# Altium footprint library Loggerhead.PcbLib: 175 footprints (part 2 of 11)
Each footprint in its own frame and in the unit in brackets; x right, y up, seen from the top. Pads: shape width x height; smd on the part's side, far side on the other; paste and mask are expansions set on the pad; w line width, h text height; cw(c..) or ccw(c..) is an arc to the next point about the centre after c.
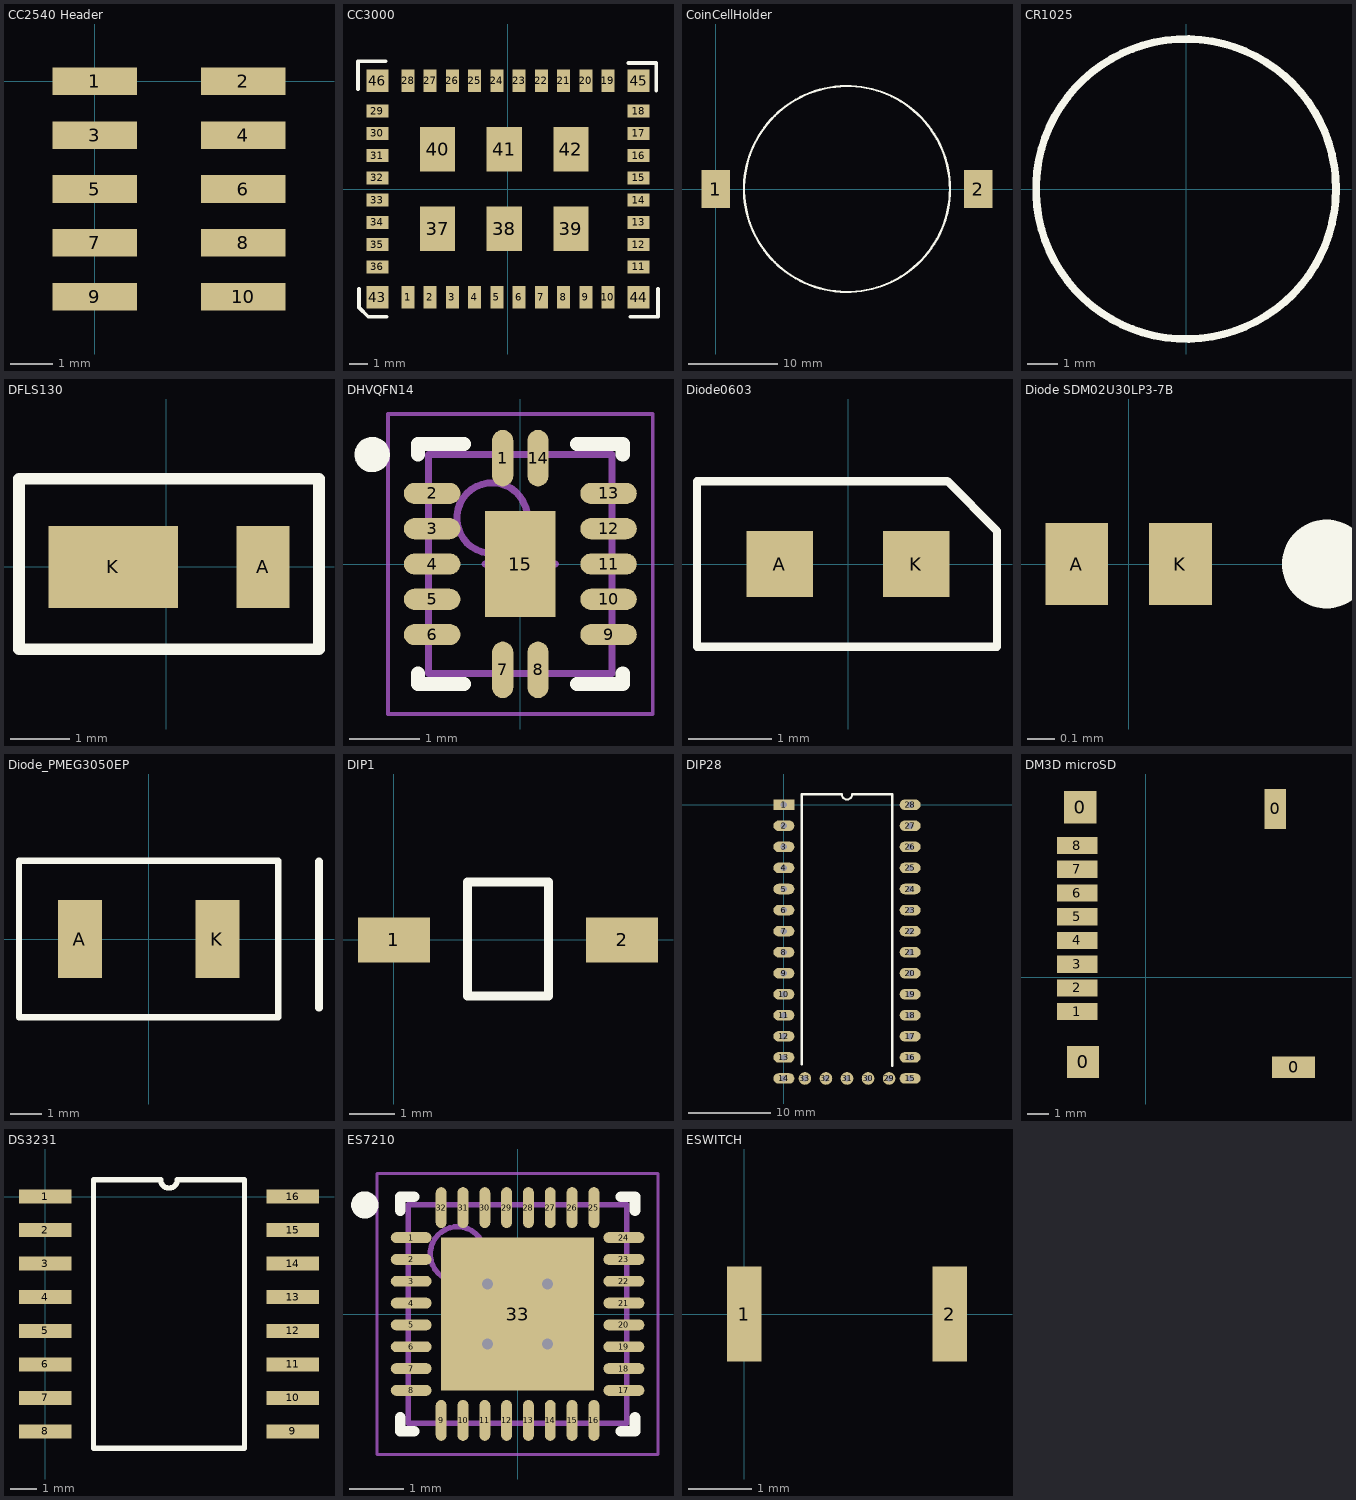
[diagram p1: the footprints below, top view; thin cyan lines are the x and y axes]

## CC2540 Header [mm]
pads (10):
  rect 2x0.65 smd: 1(0,0) 2(3.5,0) 3(0,-1.27) 4(3.5,-1.27) 5(0,-2.54) 6(3.5,-2.54) 7(0,-3.81) 8(3.5,-3.81) 9(0,-5.08) 10(3.5,-5.08)

## CC3000 [mm] "TI WiFi"
height 2
pads (46):
  rect 0.7x1.2 smd: 1(-5.4,-5.85) 2(-4.2,-5.85) 3(-3,-5.85) 4(-1.8,-5.85) 5(-0.6,-5.85) 6(0.6,-5.85) 7(1.8,-5.85) 8(3,-5.85) 9(4.2,-5.85) 10(5.4,-5.85) 19(5.4,5.85) 20(4.2,5.85) 21(3,5.85) 22(1.8,5.85) 23(0.6,5.85) 24(-0.6,5.85) 25(-1.8,5.85) 26(-3,5.85) 27(-4.2,5.85) 28(-5.4,5.85)
  rect 1.2x0.7 smd: 11(7.05,-4.2) 12(7.05,-3) 13(7.05,-1.8) 14(7.05,-0.6) 15(7.05,0.6) 16(7.05,1.8) 17(7.05,3) 18(7.05,4.2) 29(-7.05,4.2) 30(-7.05,3) 31(-7.05,1.8) 32(-7.05,0.6) 33(-7.05,-0.6) 34(-7.05,-1.8) 35(-7.05,-3) 36(-7.05,-4.2)
  rect 1.9x2.4 smd: 37(-3.8,-2.15) 38(-0.2,-2.15) 39(3.4,-2.15) 40(-3.8,2.15) 41(-0.2,2.15) 42(3.4,2.15)
  rect 1.2x1.2 smd: 43(-7.05,-5.85) 44(7.05,-5.85) 45(7.05,5.85) 46(-7.05,5.85)
Top Overlay:
  lines w0.2: -8.1,5.4 -8.1,6.9 -6.6,6.9 ; -8.05,-5.4 -8.05,-6.4 -7.55,-6.9 -6.55,-6.9 ; 6.5,6.8 8,6.8 8,5.3 ; 6.6,-6.9 8.1,-6.9 8.1,-5.4

## CC-16-4 [mm]

## CoinCellHolder [mm] "MPD BU2032SM-BT-GTR"
height 4.8
pads (2):
  rect 3.2x4.2 smd: 1(0,0) 2(29.3,0)
Top Overlay:
  circle w0.254: c14.65,0 r11.5

## CR1025 [mm]
height 2.5
Top Overlay:
  circle w0.254: c0,0 r5
3D body: height 2.5, standoff 0, extent -4.961,-5 5,4.98

## DFLS130 [mm] "Diode"
pads (2):
  rect 0.9x1.4 smd: A(1.65,0)
  rect 2.2x1.4 smd: K(-0.9,0)
Top Overlay:
  lines w0.2: -2.5,-1.4 2.6,-1.4 2.6,1.5 -2.5,1.5 -2.5,0 -2.5,-1.4

## DHVQFN14 [mm] "QFN, 14-Leads, Body 2.50x3.00mm, Pitch 0.50mm, Thermal Pad 1.00x1.50mm, IPC Medium Density"
height 1
pads (15):
  oval 0.3x0.8 smd: 1(-0.25,1.5) 7(-0.25,-1.5) 8(0.25,-1.5) 14(0.25,1.5)
  oval 0.8x0.3 smd: 2(-1.25,1) 3(-1.25,0.5) 4(-1.25,0) 5(-1.25,-0.5) 6(-1.25,-1) 9(1.25,-1) 10(1.25,-0.5) 11(1.25,0) 12(1.25,0.5) 13(1.25,1)
  rect 1x1.5 smd: 15(0,0)
Top Overlay:
  circle w0.25: c-2.1,1.55 r0.125
  lines w0.2: -1.45,-1.55 -1.45,-1.7 -0.8,-1.7 ; -1.45,1.55 -1.45,1.7 -0.8,1.7 ; 0.8,-1.7 1.45,-1.7 1.45,-1.55 ; 0.8,1.7 1.45,1.7 1.45,1.55
Mechanical 13:
  circle w0.1: c-0.4,0.65 r0.5
  lines w0.1: -1.3,-1.55 -1.3,1.55 1.3,1.55 1.3,-1.55 -1.3,-1.55
Mechanical 15:
  lines w0.05: -1.875,-2.125 -1.875,2.125 1.875,2.125 1.875,-2.125 -1.875,-2.125
  lines w0.1: -0.5,0 0.5,0 ; 0,-0.5 0,0.5
3D body: height 1, standoff 0.03, extent -1.3,-1.55 1.3,1.55

## Diode0603 [mm]
pads (2):
  rect 0.8x0.8 smd: A(-0.825,0) K(0.825,0)
Top Overlay:
  lines w0.1: -1.825,-1 -1.825,0 -1.825,1 1.2,1 1.8,0.4 1.8,-1 -1.825,-1

## Diode SDM02U30LP3-7B [mm]
height 0.3
pads (2):
  rect 0.23x0.3 smd: A(-0.19,0) K(0.19,0)
Top Overlay:
  circle w0.254: c0.725,0 r0.035

## Diode_PMEG3050EP [mm]
pads (2):
  rect 1.4x2.5 smd: A(-2.2,0) K(2.2,0)
Top Overlay:
  lines w0.2: -4.15,-2.5 4.15,-2.5 4.15,2.5 -4.15,2.5 -4.15,0 -4.15,-2.5
  lines w0.254: 5.45,-2.2 5.45,2.475

## DIP1 [mm]
pads (2):
  rect 1.6x1 smd: 1(0,0) 2(5.08,0)
Top Overlay:
  lines w0.2: 1.635,1.25 1.635,-1.25 3.445,-1.25 3.445,1.25 ; 1.635,1.29 3.445,1.29

## DIP28 [mil]
pads (33):
  rect 100x50 hole 30: 1(0,0)
  oval 100x50 hole 30: 2(0,-100) 3(0,-200) 4(0,-300) 5(0,-400) 6(0,-500) 7(0,-600) 8(0,-700) 9(0,-800) 10(0,-900) 11(0,-1000) 12(0,-1100) 13(0,-1200) 14(0,-1300) 15(600,-1300) 16(600,-1200) 17(600,-1100) 18(600,-1000) 19(600,-900) 20(600,-800) 21(600,-700) 22(600,-600) 23(600,-500) 24(600,-400) 25(600,-300) 26(600,-200) 27(600,-100) 28(600,0)
  round 60 hole 30: 29(500,-1300) 30(400,-1300) 31(300,-1300) 32(200,-1300) 33(100,-1300)
Top Overlay:
  lines w10: 85,-1232.28 85,50 275,50 ccw(c300,50) 325,50 515,50 515,-1240.16

## DM3D microSD [mm] "MICROSD_HIROSE Push-Pull"
pads (12):
  rect 1.5x1.5 smd: 0(-3.048,7.874) 0(-2.921,-3.937)
  rect 1x1.85 smd: 0(6,7.8)
  rect 2x1 smd: 0(6.85,-4.191)
  rect 1.9x0.8 smd: 1(-3.188,-1.601) 2(-3.188,-0.501) 3(-3.188,0.599) 4(-3.188,1.699) 5(-3.188,2.799) 6(-3.188,3.899) 7(-3.188,4.999) 8(-3.188,6.099)
3D body "DM3D-SF.stp": height 1.55, standoff 0, extent -3.65,-4.45 7.8,7.5

## DS3231 [mm]
pads (16):
  rect 1.98x0.53 smd: 1(0,0) 2(0,-1.27) 3(0,-2.54) 4(0,-3.81) 5(0,-5.08) 6(0,-6.35) 7(0,-7.62) 8(0,-8.89) 9(9.37,-8.89) 10(9.37,-7.62) 11(9.37,-6.35) 12(9.37,-5.08) 13(9.37,-3.81) 14(9.37,-2.54) 15(9.37,-1.27) 16(9.37,0)
Top Overlay:
  lines w0.2: 1.825,-9.525 1.825,0.635 4.367,0.635 ccw(c4.685,0.635) 5.002,0.635 7.545,0.635 7.545,-9.525 1.825,-9.525

## ES7210 [mm] "4-ch audio codec"
height 0.75
pads (33):
  oval 0.75x0.2 smd mask+0.05: 1(-1.95,1.4) 2(-1.95,1) 3(-1.95,0.6) 4(-1.95,0.2) 5(-1.95,-0.2) 6(-1.95,-0.6) 7(-1.95,-1) 8(-1.95,-1.4) 17(1.95,-1.4) 18(1.95,-1) 19(1.95,-0.6) 20(1.95,-0.2) 21(1.95,0.2) 22(1.95,0.6) 23(1.95,1) 24(1.95,1.4)
  oval 0.2x0.75 smd mask+0.05: 9(-1.4,-1.95) 10(-1,-1.95) 11(-0.6,-1.95) 12(-0.2,-1.95) 13(0.2,-1.95) 14(0.6,-1.95) 15(1,-1.95) 16(1.4,-1.95) 25(1.4,1.95) 26(1,1.95) 27(0.6,1.95) 28(0.2,1.95) 29(-0.2,1.95) 30(-0.6,1.95) 31(-1,1.95) 32(-1.4,1.95)
  rect 2.8x2.8 smd: 33(0,0)
via -0.55,0.55 diameter 0.5 hole 0.2
via 0.55,0.55 diameter 0.5 hole 0.2
via -0.55,-0.55 diameter 0.5 hole 0.2
via 0.55,-0.55 diameter 0.5 hole 0.2
Top Overlay:
  circle w0.25: c-2.8,2 r0.125
  lines w0.2: -2.15,-1.9 -2.15,-2.15 -1.9,-2.15 ; -2.15,1.9 -2.15,2.15 -1.9,2.15 ; 1.9,-2.15 2.15,-2.15 2.15,-1.9 ; 1.9,2.15 2.15,2.15 2.15,1.9
Mechanical 13:
  circle w0.1: c-1.1,1.1 r0.5
  lines w0.1: -2,-2 -2,2 2,2 2,-2 -2,-2
Mechanical 15:
  lines w0.05: -2.575,-2.575 -2.575,2.575 2.575,2.575 2.575,-2.575 -2.575,-2.575
  lines w0.1: -0.5,0 0.5,0 ; 0,-0.5 0,0.5
3D body: height 0.75, standoff 0.02, extent -2,-2 2,2

## ESWITCH [mm] "E-Switch TL3780"
height 0.6
pads (2):
  rect 0.55x1.5 smd: 1(0,0) 2(3.25,0)
3D body: height 0.6, standoff 0, extent -0.125,-1.075 3.375,1.075